# Altium schematic symbol library Resistors.SchLib: 234 symbols (part 1 of 2)
Pins are listed as number, name and electrical type; pins without a type are passive.

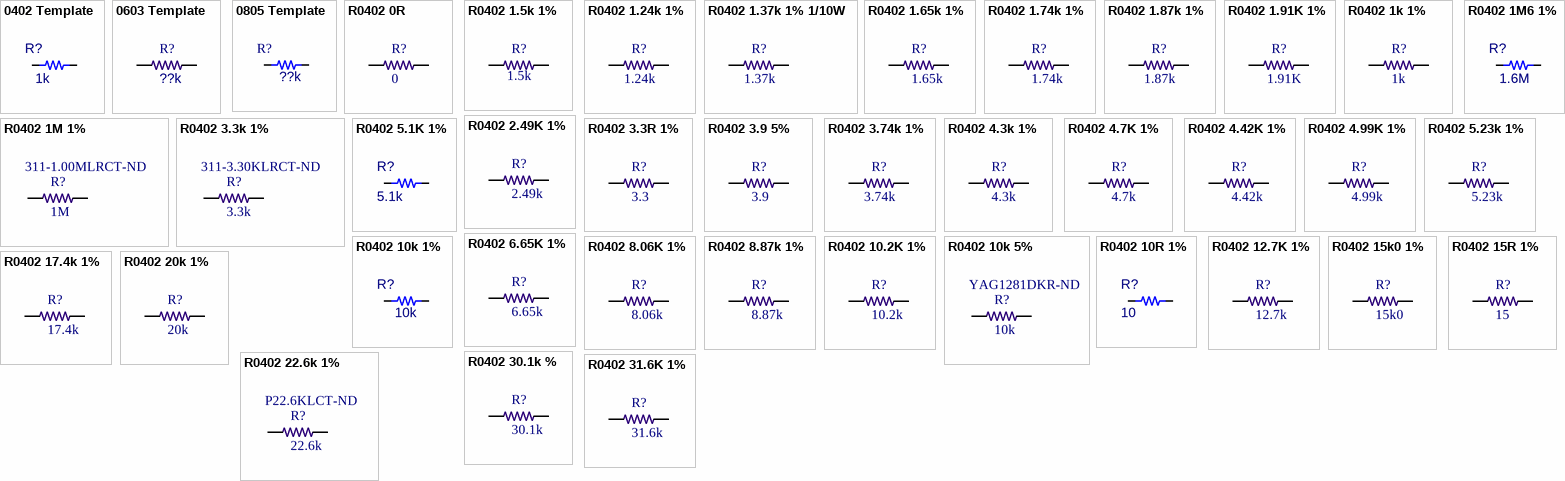
[diagram p0: symbols 0402 Template to R0402 31.6K 1%]

## 0402 Template
designator R?  value 1k  (hidden comment: *)
Chip Resistor, 0402, 1k ohms, 1%, 1/16 W
footprint R0402-IPC
footprint R0402-HIGH-DENSITY (Chip Resistor, 2-Leads, Body 1.00x0.50mm, IPC High Density)
pins: 1, 2

## 0603 Template
designator R?  value ??k  (hidden comment: *)
Chip Resistor, 0603, ??k ohms, 0.1W
footprint R0603-IPC
footprint R0603-HIGH-DENSITY (Chip Resistor, 2-Leads, Body 1.60x0.80mm, IPC High Density)
pins: 1, 2

## 0805 Template
designator R?  value ??k  (hidden comment: *)
Chip Resistor, 0805, ??k ohms, 0.1W
footprint R0805-IPC
footprint R0805-High-Density (Chip Resistor, 2-Leads, Body 2.00x1.20mm, IPC High Density)
pins: 1, 2

## R0402 0R
designator R?  value 0  (hidden comment: *)
Chip Resistor, 0402, 0 ohm jumper; Supplier 1: Digi-Key; Supplier Part Number 1: 311-0.0JRCT-ND
footprint R0402-IPC
footprint R0402-HIGH-DENSITY (Chip Resistor, 2-Leads, Body 1.00x0.50mm, IPC High Density)
pins: 1, 2

## R0402 1.5k 1%
designator R?  value 1.5k  (hidden comment: *)
Chip Resistor, 0402, 1.5k ohms, 1%, 1/16 W; Supplier 1: Digi-Key; Supplier Part Number 1: 311-1.50KLRCT-ND
footprint R0402-IPC
footprint R0402-HIGH-DENSITY (Chip Resistor, 2-Leads, Body 1.00x0.50mm, IPC High Density)
pins: 1, 2

## R0402 1.24k 1%
designator R?  value 1.24k  (hidden comment: *)
Chip Resistor, 0402, 1.24k ohms, 1%, 1/16 W; Supplier 1: Digi-Key; Supplier Part Number 1: 311-1.24KLRCT-ND
footprint R0402-HIGH-DENSITY (Chip Resistor, 2-Leads, Body 1.00x0.50mm, IPC High Density)
pins: 1, 2

## R0402 1.37k 1% 1/10W
designator R?  value 1.37k  (hidden comment: *)
Chip Resistor, 0402, 1.37k ohms, 0.1W; Supplier 1: Digi-Key; Supplier Part Number 1: 2019-RK73H1ETTP1371FCT-ND
footprint R0402-HIGH-DENSITY (Chip Resistor, 2-Leads, Body 1.00x0.50mm, IPC High Density)
pins: 1, 2

## R0402 1.65k 1%
designator R?  value 1.65k  (hidden comment: *)
Chip Resistor, 0402, 1.65k ohms, 1%, 1/16 W; Supplier 1: Digi-Key; Supplier Part Number 1: YAG3043CT-ND
footprint R0402-IPC
footprint R0402-HIGH-DENSITY (Chip Resistor, 2-Leads, Body 1.00x0.50mm, IPC High Density)
pins: 1, 2

## R0402 1.74k 1%
designator R?  value 1.74k  (hidden comment: *)
Chip Resistor, 0402, 1.74k ohms, 1%, 0.1 W; Supplier 1: Digi-Key; Supplier Part Number 1: 2019-RK73H1ETTP1741FCT-ND
footprint R0402-HIGH-DENSITY (Chip Resistor, 2-Leads, Body 1.00x0.50mm, IPC High Density)
pins: 1, 2

## R0402 1.87k 1%
designator R?  value 1.87k  (hidden comment: *)
Chip Resistor, 0402, 1.87k ohms, 1%, 1/16 W; Supplier 1: Digi-Key; Supplier Part Number 1: RMCF0402FT1K87CT-ND
footprint R0402-HIGH-DENSITY (Chip Resistor, 2-Leads, Body 1.00x0.50mm, IPC High Density)
pins: 1, 2

## R0402 1.91K 1%
designator R?  value 1.91K  (hidden comment: *)
Chip Resistor, 0402, 1.91K ohms, 1%, 0.1W; Supplier 1: Digi-Key; Supplier Part Number 1: P1.91KLCT-ND
footprint R0402-IPC
footprint R0402-HIGH-DENSITY (Chip Resistor, 2-Leads, Body 1.00x0.50mm, IPC High Density)
pins: 1, 2

## R0402 1k 1%
designator R?  value 1k  (hidden comment: *)
Chip Resistor, 0402, 1k ohms, 1%, 1/16 W; Supplier 1: Digi-Key; Supplier Part Number 1: 311-1.00KLRCT-ND
footprint R0402-IPC
footprint R0402-HIGH-DENSITY (Chip Resistor, 2-Leads, Body 1.00x0.50mm, IPC High Density)
pins: 1, 2

## R0402 1M6 1%
designator R?, comment value 1.6M  (hidden comment: 1.6M 1% 0402)
Chip Resistor, 0402, 1.6M ohms, 1%, 1/16 W; Supplier 1: DigiKey; Supplier 2: Mouser; Supplier Part Number 1: 2019-RK73H1ETTP1604FCT-ND; Supplier Part Number 2: 660-RK73H1ETTP1604F
footprint R0402-IPC
footprint R0402-HIGH-DENSITY (Chip Resistor, 2-Leads, Body 1.00x0.50mm, IPC High Density)
pins: 1, 2

## R0402 1M 1%
designator R?  value 1M  Supplier Part Number 1: 311-1.00MLRCT-ND  (hidden comment: *)
Chip Resistor, 0402, ??k ohms, 0.1W; Supplier 1: Digi-Key
footprint R0402-IPC
footprint R0402-HIGH-DENSITY (Chip Resistor, 2-Leads, Body 1.00x0.50mm, IPC High Density)
pins: 1, 2

## R0402 2.49K 1%
designator R?  value 2.49k  (hidden comment: *)
Chip Resistor, 0402, 2.49k ohms, 1/16W; Supplier 1: Digi-Key; Supplier Part Number 1: 541-2.49KLCT-ND
footprint R0402-HIGH-DENSITY (Chip Resistor, 2-Leads, Body 1.00x0.50mm, IPC High Density)
pins: 1, 2

## R0402 3.3k 1%
designator R?  value 3.3k  Supplier Part Number 1: 311-3.30KLRCT-ND  (hidden comment: *)
Chip Resistor, 0402, 3.3k ohms, 1%, 1/16 W; Supplier 1: Digi-Key
footprint R0402-IPC
footprint R0402-HIGH-DENSITY (Chip Resistor, 2-Leads, Body 1.00x0.50mm, IPC High Density)
pins: 1, 2

## R0402 3.3R 1%
designator R?  value 3.3  (hidden comment: *)
Chip Resistor, 0402, 3.3 ohms, 1%, 1/16 W; Supplier 1: Digi-Key; Supplier Part Number 1: 311-3.30LRCT-ND
footprint R0402-IPC
footprint R0402-HIGH-DENSITY (Chip Resistor, 2-Leads, Body 1.00x0.50mm, IPC High Density)
pins: 1, 2

## R0402 3.9 5%
designator R?  value 3.9  (hidden comment: *)
Chip Resistor, 0402, 3.9 ohms, 0.1W; Supplier 1: Digi-Key; Supplier Part Number 1: P3.9JCT-ND
footprint R0402-HIGH-DENSITY (Chip Resistor, 2-Leads, Body 1.00x0.50mm, IPC High Density)
footprint R0402-IPC
pins: 1, 2

## R0402 3.74k 1%
designator R?  value 3.74k  (hidden comment: *)
Chip Resistor, 0402, 3.74k ohms, 1%, 1/16 W; Supplier 1: Digi-Key; Supplier Part Number 1: 311-3.74KLRCT-ND
footprint R0402-HIGH-DENSITY (Chip Resistor, 2-Leads, Body 1.00x0.50mm, IPC High Density)
pins: 1, 2

## R0402 4.3k 1%
designator R?  value 4.3k  (hidden comment: *)
Chip Resistor, 0402, 4.3k ohms, 0.1W; Manufacturer Part Number: ERJ-2RKF4301X; Manufacturer: Panasonic Electronic Components; Supplier Part Number: P4.30KLCT-ND; Supplier: Digi-Key; Supplier 1: Digi-Key; Supplier Part Number 1: P4.30KLCT-ND
footprint R0402-IPC
pins: 1, 2

## R0402 4.7K 1%
designator R?  value 4.7k  (hidden comment: *)
Chip Resistor, 0402, 4.7k ohms, 0.1W; Supplier 1: Digi-Key; Supplier Part Number 1: P4.70KLCT-ND
footprint R0402-IPC
footprint R0402-HIGH-DENSITY (Chip Resistor, 2-Leads, Body 1.00x0.50mm, IPC High Density)
pins: 1, 2

## R0402 4.42K 1%
designator R?  value 4.42k  (hidden comment: *)
Chip Resistor, 0402, 4.42k ohms, 0.1W; Supplier Part Number: P8.06KLCT-ND; Supplier 1: Digi-Key; Supplier Part Number 1: P4.42KLCT-ND
footprint R0402-HIGH-DENSITY (Chip Resistor, 2-Leads, Body 1.00x0.50mm, IPC High Density)
pins: 1, 2

## R0402 4.99K 1%
designator R?  value 4.99k  (hidden comment: *)
Chip Resistor, 0402, 4.99k ohms, 0.1W; Supplier 1: Digi-Key; Supplier Part Number 1: P4.99KLCT-ND
footprint R0402-HIGH-DENSITY (Chip Resistor, 2-Leads, Body 1.00x0.50mm, IPC High Density)
footprint R0402-IPC
pins: 1, 2

## R0402 5.1K 1%
designator R?  value 5.1k  (hidden comment: *)
RES SMD 5.1K OHM 1% 1/10W 0402; Temperature Coefficient: ±100ppm/°C; Features: Automotive AEC-Q200; Operating Temperature: -55°C ~ 155°C
footprint R0402-HIGH-DENSITY (Chip Resistor, 2-Leads, Body 1.00x0.50mm, IPC High Density)
footprint R0402-IPC
pins: 1, 2

## R0402 5.23k 1%
designator R?  value 5.23k  (hidden comment: *)
Chip Resistor, 0402, 5.23k ohms, 0.1W; Supplier 1: Digi-Key; Supplier Part Number 1: P5.23KLCT-ND
footprint R0402-IPC
pins: 1, 2

## R0402 6.65K 1%
designator R?  value 6.65k  (hidden comment: *)
Chip Resistor, 0402, 6.65k ohms, 1/16 W; Supplier 1: Digi-Key; Supplier Part Number 1: RMCF0402FT6K65CT-ND
footprint R0402-HIGH-DENSITY (Chip Resistor, 2-Leads, Body 1.00x0.50mm, IPC High Density)
pins: 1, 2

## R0402 8.06K 1%
designator R?  value 8.06k  (hidden comment: *)
Chip Resistor, 0402, 8.06k ohms, 0.1W; Supplier Part Number: P8.06KLCT-ND; Supplier 1: Digi-Key; Supplier Part Number 1: 311-8.06KLRCT-ND
footprint R0402-HIGH-DENSITY (Chip Resistor, 2-Leads, Body 1.00x0.50mm, IPC High Density)
pins: 1, 2

## R0402 8.87k 1%
designator R?  value 8.87k  (hidden comment: *)
Chip Resistor, 0402, 8.87k ohms, 0.1W; Supplier 1: Digi-Key; Supplier Part Number 1: P8.87KLCT-ND
footprint R0402-IPC
footprint R0402-HIGH-DENSITY (Chip Resistor, 2-Leads, Body 1.00x0.50mm, IPC High Density)
pins: 1, 2

## R0402 10.2K 1%
designator R?  value 10.2k  (hidden comment: *)
Chip Resistor, 0402, 10.2k ohms, 0.1W; Supplier 1: Digi-Key; Supplier Part Number 1: P10.2KLCT-ND
footprint R0603-IPC
footprint R0603-HIGH-DENSITY (Chip Resistor, 2-Leads, Body 1.60x0.80mm, IPC High Density)
footprint R0603-HIGH-DENSITY (Chip Resistor, 2-Leads, Body 1.60x0.80mm, IPC High Density)
footprint C0402-HIGH-DENSITY (Chip Capacitor, 2-Leads, Body 1.02x0.51mm, IPC High Density)
pins: 1, 2

## R0402 10k 1%
designator R?  value 10k  (hidden comment: *)
Chip Resistor, 0402, 10k ohms, 1%, 1/16 W; Supplier 1: Digi-Key; Supplier Part Number 1: 311-10.0KLRCT-ND
footprint R0402-IPC
footprint R0402-HIGH-DENSITY (Chip Resistor, 2-Leads, Body 1.00x0.50mm, IPC High Density)
pins: 1, 2

## R0402 10k 5%
designator R?  value 10k  Supplier Part Number 1: YAG1281DKR-ND  (hidden comment: *)
Chip Resistor, 0402, 10k ohms, 5%, 1/16 W; Supplier 1: Digi-Key
footprint R0402-IPC
footprint R0402-HIGH-DENSITY (Chip Resistor, 2-Leads, Body 1.00x0.50mm, IPC High Density)
pins: 1, 2

## R0402 10R 1%
designator R?  value 10  (hidden comment: *)
Chip Resistor, 0402, 10 ohms, 1%, 1/16 W; Supplier 1: Digi-Key; Supplier Part Number 1: 311-10.0LRCT-ND
footprint R0402-IPC
footprint R0402-HIGH-DENSITY (Chip Resistor, 2-Leads, Body 1.00x0.50mm, IPC High Density)
pins: 1, 2

## R0402 12.7K 1%
designator R?  value 12.7k  (hidden comment: *)
Chip Resistor, 0402, 12.7k ohms, 0.1W; Supplier 1: Digi-Key; Supplier Part Number 1: P12.7KLCT-ND
footprint R0603-IPC
footprint R0603-HIGH-DENSITY (Chip Resistor, 2-Leads, Body 1.60x0.80mm, IPC High Density)
footprint R0603-HIGH-DENSITY (Chip Resistor, 2-Leads, Body 1.60x0.80mm, IPC High Density)
footprint C0402-HIGH-DENSITY (Chip Capacitor, 2-Leads, Body 1.02x0.51mm, IPC High Density)
pins: 1, 2

## R0402 15k0 1%
designator R?  value 15k0  (hidden comment: *)
Chip Resistor, 0402, 15k0 ohms, 0.0625W; Supplier 1: Digi-Key; Supplier Part Number 1: 311-15.0KLRCT-ND
footprint R0402-IPC
footprint R0402-HIGH-DENSITY (Chip Resistor, 2-Leads, Body 1.00x0.50mm, IPC High Density)
pins: 1, 2

## R0402 15R 1%
designator R?  value 15  (hidden comment: *)
Chip Resistor, 0402, 15 ohms, 1%, 1/16 W; Supplier 1: Digi-Key; Supplier Part Number 1: 311-15LRCT-ND
footprint R0402-IPC
footprint R0402-HIGH-DENSITY (Chip Resistor, 2-Leads, Body 1.00x0.50mm, IPC High Density)
pins: 1, 2

## R0402 17.4k 1%
designator R?  value 17.4k  (hidden comment: *)
Chip Resistor, 0402, 17.4k ohms, 0.1W; Supplier 1: Digi-Key; Supplier Part Number 1: P17.4KLCT-ND
footprint R0402-IPC
pins: 1, 2

## R0402 20k 1%
designator R?  value 20k  (hidden comment: *)
Chip Resistor, 0402, 20k ohms, 1%, 1/16 W; Supplier 1: Digi-Key; Supplier Part Number 1: 311-20.0KLRCT-ND
footprint R0402-IPC
footprint R0402-HIGH-DENSITY (Chip Resistor, 2-Leads, Body 1.00x0.50mm, IPC High Density)
pins: 1, 2

## R0402 22.6k 1%
designator R?  value 22.6k  Supplier Part Number 1: P22.6KLCT-ND  (hidden comment: *)
Chip Resistor, 0402, 22.6k ohms, 0.1W; Supplier 1: Digi-Key
footprint R0402-IPC
footprint R0402-HIGH-DENSITY (Chip Resistor, 2-Leads, Body 1.00x0.50mm, IPC High Density)
pins: 1, 2

## R0402 30.1k %
designator R?  value 30.1k  (hidden comment: *)
Chip Resistor, 0402, 30.1k ohms, 0.1W; Supplier 1: Digi-Key; Supplier Part Number 1: P30.1KLCT-ND
footprint R0402-IPC
pins: 1, 2

## R0402 31.6K 1%
designator R?  value 31.6k  (hidden comment: *)
Chip Resistor, 0402, ??k ohms, 0.1W; Supplier 1: Digi-Key; Supplier Part Number 1: RMCF0402FT31K6CT-ND
footprint R0603-IPC
footprint R0603-HIGH-DENSITY (Chip Resistor, 2-Leads, Body 1.60x0.80mm, IPC High Density)
footprint R0603-HIGH-DENSITY (Chip Resistor, 2-Leads, Body 1.60x0.80mm, IPC High Density)
footprint C0402-HIGH-DENSITY (Chip Capacitor, 2-Leads, Body 1.02x0.51mm, IPC High Density)
pins: 1, 2

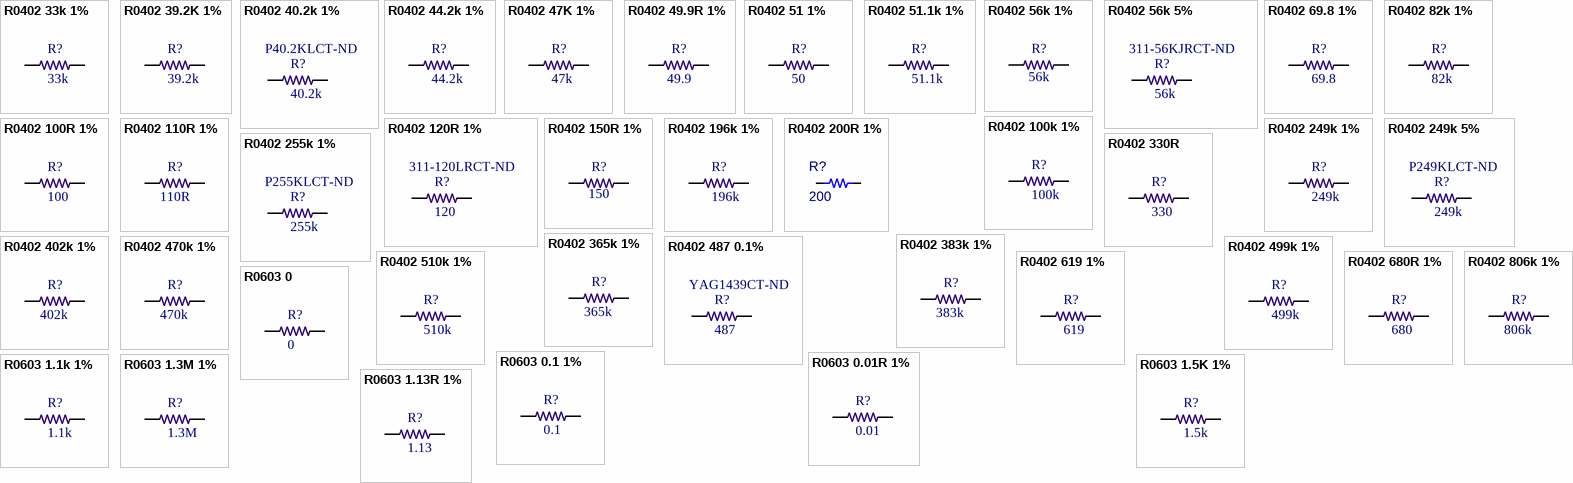
[diagram p1: symbols R0402 33k 1% to R0603 1.13R 1%]

## R0402 33k 1%
designator R?  value 33k  (hidden comment: *)
Chip Resistor, 0402, 33k ohms, 1%, 1/16 W; Supplier 1: Digi-Key; Supplier Part Number 1: 311-33.0KLRCT-ND
footprint R0402-IPC
footprint R0402-HIGH-DENSITY (Chip Resistor, 2-Leads, Body 1.00x0.50mm, IPC High Density)
pins: 1, 2

## R0402 39.2K 1%
designator R?  value 39.2k  (hidden comment: *)
Chip Resistor, 0402, 39.2k ohms, 0.1W; Supplier 1: Digi-Key; Supplier Part Number 1: P39.2KLCT-ND
footprint R0603-IPC
footprint R0603-HIGH-DENSITY (Chip Resistor, 2-Leads, Body 1.60x0.80mm, IPC High Density)
footprint R0603-HIGH-DENSITY (Chip Resistor, 2-Leads, Body 1.60x0.80mm, IPC High Density)
footprint C0402-HIGH-DENSITY (Chip Capacitor, 2-Leads, Body 1.02x0.51mm, IPC High Density)
pins: 1, 2

## R0402 40.2k 1%
designator R?  value 40.2k  Supplier Part Number 1: P40.2KLCT-ND  (hidden comment: *)
Chip Resistor, 0402, 20k ohms, 1%, 1/16 W; Supplier 1: Digi-Key
footprint R0402-IPC
footprint R0402-HIGH-DENSITY (Chip Resistor, 2-Leads, Body 1.00x0.50mm, IPC High Density)
pins: 1, 2

## R0402 44.2k 1%
designator R?  value 44.2k  (hidden comment: *)
Chip Resistor, 0402, 44.2k ohms, 0.1W; Supplier 1: Digi-Key; Supplier Part Number 1: P44.2KLCT-ND
footprint R0402-IPC
pins: 1, 2

## R0402 47K 1%
designator R?  value 47k  (hidden comment: *)
Chip Resistor, 0402, 47k ohms, 0.0625W; Supplier: Digi-Key; Supplier Part Number: 541-47.0KLCT-ND
footprint R0603-IPC
footprint R0603-HIGH-DENSITY (Chip Resistor, 2-Leads, Body 1.60x0.80mm, IPC High Density)
footprint R0603-HIGH-DENSITY (Chip Resistor, 2-Leads, Body 1.60x0.80mm, IPC High Density)
footprint C0402-HIGH-DENSITY (Chip Capacitor, 2-Leads, Body 1.02x0.51mm, IPC High Density)
pins: 1, 2

## R0402 49.9R 1%
designator R?  value 49.9  (hidden comment: *)
Chip Resistor, 0402, 49.9 ohms, 1%, 1/16 W; Supplier 1: Digi-Key; Supplier Part Number 1: 311-49.9LRCT-ND
footprint R0402-IPC
footprint R0402-HIGH-DENSITY (Chip Resistor, 2-Leads, Body 1.00x0.50mm, IPC High Density)
pins: 1, 2

## R0402 51 1%
designator R?  value 50  (hidden comment: *)
Chip Resistor, 0402, 50 ohms, 1%, 1/10 W
footprint R0402-IPC
footprint R0402-HIGH-DENSITY (Chip Resistor, 2-Leads, Body 1.00x0.50mm, IPC High Density)
pins: 1, 2

## R0402 51.1k 1%
designator R?  value 51.1k  (hidden comment: *)
Chip Resistor, 0402, 51.1k ohms, 0.1W; Tolerance: ±1%; Temperature Coefficient: ±100ppm/°C; Power (Watts): 0.1W; Features: Automotive AEC-Q200; Operating Temperature: -55°C ~ 155°C; Package / Case: 0402; Supplier 1: Digi-Key; Supplier Part Number 1: P51.1KLCT-ND
footprint R0402-IPC
pins: 1, 2

## R0402 56k 1%
designator R?  value 56k  (hidden comment: *)
Chip Resistor, 0402, 56k ohms, 1/16 W; Supplier 1: Digi-Key; Supplier Part Number 1: 311-56.0KLRCT-ND
footprint R0402-IPC
footprint R0402-HIGH-DENSITY (Chip Resistor, 2-Leads, Body 1.00x0.50mm, IPC High Density)
pins: 1, 2

## R0402 56k 5%
designator R?  value 56k  Supplier Part Number 1: 311-56KJRCT-ND  (hidden comment: *)
Chip Resistor, 0402, 56k ohms, 0.1W; Supplier 1: Digi-Key
footprint R0402-IPC
footprint R0402-HIGH-DENSITY (Chip Resistor, 2-Leads, Body 1.00x0.50mm, IPC High Density)
pins: 1, 2

## R0402 69.8 1%
designator R?  value 69.8  (hidden comment: *)
Chip Resistor, 0402, 69.8 ohms, 0.1W; Supplier 1: Digi-Key; Supplier Part Number 1: P69.8LCT-ND
footprint R0402-IPC
pins: 1, 2

## R0402 82k 1%
designator R?  value 82k  (hidden comment: *)
Chip Resistor, 0402, 82k ohms, 1/16 W; Supplier 1: Digi-Key; Supplier Part Number 1: 311-82.0KLRCT-ND
footprint R0402-IPC
footprint R0402-HIGH-DENSITY (Chip Resistor, 2-Leads, Body 1.00x0.50mm, IPC High Density)
pins: 1, 2

## R0402 100k 1%
designator R?  value 100k  (hidden comment: *)
Chip Resistor, 0402, 100k ohms, 1/16 W; Supplier 1: Digi-Key; Supplier Part Number 1: 311-100KLRCT-ND
footprint R0402-IPC
footprint R0402-HIGH-DENSITY (Chip Resistor, 2-Leads, Body 1.00x0.50mm, IPC High Density)
pins: 1, 2

## R0402 100R 1%
designator R?  value 100  (hidden comment: *)
Chip Resistor, 0402, 100 ohms, 1%, 1/16 W; Supplier 1: Digi-Key; Supplier Part Number 1: 311-100LRCT-ND
footprint R0402-IPC
footprint R0402-HIGH-DENSITY (Chip Resistor, 2-Leads, Body 1.00x0.50mm, IPC High Density)
pins: 1, 2

## R0402 110R 1%
designator R?  value 110R  (hidden comment: *)
Chip Resistor, 0402, 110R, 1%, 1/16 W; Supplier 1: Digi-Key; Supplier Part Number 1: 311-110LRCT-ND
footprint R0402-IPC
footprint R0402-HIGH-DENSITY (Chip Resistor, 2-Leads, Body 1.00x0.50mm, IPC High Density)
pins: 1, 2

## R0402 120R 1%
designator R?  value 120  Supplier Part Number 1: 311-120LRCT-ND  (hidden comment: *)
Chip Resistor, 0402, 120 ohm, 1%; Supplier 1: Digi-Key
footprint R0402-IPC
footprint R0402-HIGH-DENSITY (Chip Resistor, 2-Leads, Body 1.00x0.50mm, IPC High Density)
pins: 1, 2

## R0402 150R 1%
designator R?  value 150  (hidden comment: *)
Chip Resistor, 0402, 150 ohms, 1%, 1/16 W; Supplier 1: Digi-Key; Supplier Part Number 1: 311-150LRCT-ND
footprint R0402-IPC
footprint R0402-HIGH-DENSITY (Chip Resistor, 2-Leads, Body 1.00x0.50mm, IPC High Density)
pins: 1, 2

## R0402 196k 1%
designator R?  value 196k  (hidden comment: *)
Chip Resistor, 0402, 196k ohms, 0.1W; Supplier 1: Digi-Key; Supplier Part Number 1: YAG3024CT-ND
footprint R0402-IPC
footprint R0402-HIGH-DENSITY (Chip Resistor, 2-Leads, Body 1.00x0.50mm, IPC High Density)
pins: 1, 2

## R0402 200R 1%
designator R?  value 200  (hidden comment: *)
Chip Resistor, 0402, 200 ohms, 1%, 1/16 W; Supplier 1: Digi-Key; Supplier Part Number 1: 311-200LRCT-ND
footprint R0402-IPC
footprint R0402-HIGH-DENSITY (Chip Resistor, 2-Leads, Body 1.00x0.50mm, IPC High Density)
pins: 1, 2

## R0402 249k 1%
designator R?  Resistance: 249k  (hidden comment: *)
RES SMD 249K OHM 1% 1/10W 0402; Power (Watts): 0.1 W; Temperature Coefficient: ±100ppm/°C; Tolerance: ±1%; Features: Automotive AEC-Q200; Operating Temperature: -55°C ~ 155°C; Package / Case: 0402; Supplier 1: Digi-Key; Supplier Part Number 1: P249KLCT-ND
footprint R0402-IPC
footprint R0402-HIGH-DENSITY (Chip Resistor, 2-Leads, Body 1.00x0.50mm, IPC High Density)
pins: 1, 2

## R0402 249k 5%
designator R?  value 249k  Supplier Part Number 1: P249KLCT-ND  (hidden comment: *)
Chip Resistor, 0402, 56k ohms, 0.1W; Supplier 1: Digi-Key
footprint R0402-IPC
footprint R0402-HIGH-DENSITY (Chip Resistor, 2-Leads, Body 1.00x0.50mm, IPC High Density)
pins: 1, 2

## R0402 255k 1%
designator R?  value 255k  Supplier Part Number 1: P255KLCT-ND  (hidden comment: *)
Chip Resistor, 0402, 255k ohms, 0.1W; Supplier 1: Digi-Key
footprint R0402-IPC
footprint R0402-HIGH-DENSITY (Chip Resistor, 2-Leads, Body 1.00x0.50mm, IPC High Density)
pins: 1, 2

## R0402 330R
designator R?  value 330  (hidden comment: *)
Chip Resistor, 0402, 330 ohms, 1%, 1/16 W; Supplier 1: Digi-Key; Supplier Part Number 1: 311-330LRCT-ND
footprint R0402-IPC
footprint R0402-HIGH-DENSITY (Chip Resistor, 2-Leads, Body 1.00x0.50mm, IPC High Density)
pins: 1, 2

## R0402 365k 1%
designator R?  value 365k  (hidden comment: *)
Chip Resistor, 0402, 365k ohms, 1%, 1/10 W; Supplier 1: Digi-Key; Supplier Part Number 1: 2019-RK73H1ETTP3653FCT-ND
footprint R0402-HIGH-DENSITY (Chip Resistor, 2-Leads, Body 1.00x0.50mm, IPC High Density)
pins: 1, 2

## R0402 383k 1%
designator R?  value 383k  (hidden comment: *)
Chip Resistor, 0402, 383k ohms, 1%, 1/10 W; Supplier 1: Digi-Key; Supplier Part Number 1: P383KLCT-ND
footprint R0402-HIGH-DENSITY (Chip Resistor, 2-Leads, Body 1.00x0.50mm, IPC High Density)
pins: 1, 2

## R0402 402k 1%
designator R?  value 402k  (hidden comment: *)
Chip Resistor, 0402, 402k ohms, 1%, 1/10 W; Supplier 1: Digi-Key; Supplier Part Number 1: P402KLCT-ND
footprint R0402-HIGH-DENSITY (Chip Resistor, 2-Leads, Body 1.00x0.50mm, IPC High Density)
pins: 1, 2

## R0402 470k 1%
designator R?  value 470k  (hidden comment: *)
Chip Resistor, 0402, 470k ohms, 1/16 W; Supplier 1: Digi-Key; Supplier Part Number 1: 311-470KLRCT-ND
footprint R0402-IPC
footprint R0402-HIGH-DENSITY (Chip Resistor, 2-Leads, Body 1.00x0.50mm, IPC High Density)
pins: 1, 2

## R0402 487 0.1%
designator R?  value 487  Supplier Part Number 1: YAG1439CT-ND  (hidden comment: *)
RES SMD 487 OHM 0.1% 1/16W 0402; Supplier 1: Digi-Key
footprint R0402-IPC
footprint R0402-HIGH-DENSITY (Chip Resistor, 2-Leads, Body 1.00x0.50mm, IPC High Density)
pins: 1, 2

## R0402 499k 1%
designator R?  value 499k  (hidden comment: *)
Chip Resistor, 0402, 499k ohms, 0.1W; Supplier 1: Digi-Key; Supplier Part Number 1: P499KLCT-ND
footprint R0402-HIGH-DENSITY (Chip Resistor, 2-Leads, Body 1.00x0.50mm, IPC High Density)
footprint R0402-IPC
pins: 1, 2

## R0402 510k 1%
designator R?  value 510k  (hidden comment: *)
Chip Resistor, 0402, 510k ohms, 0.1W; Supplier 1: Digi-Key; Supplier Part Number 1: P510KLCT-ND
footprint R0402-IPC
pins: 1, 2

## R0402 619 1%
designator R?  value 619  (hidden comment: *)
Chip Resistor, 0402, 619 ohms, 1/16 W; Supplier 1: Digi-Key; Supplier Part Number 1: 2019-RK73H1ETTP6190FCT-ND
footprint R0402-HIGH-DENSITY (Chip Resistor, 2-Leads, Body 1.00x0.50mm, IPC High Density)
pins: 1, 2

## R0402 680R 1%
designator R?  value 680  (hidden comment: *)
Chip Resistor, 0402, 680 ohms, 1/16 W; Supplier 1: Digi-Key; Supplier Part Number 1: 311-680LRCT-ND
footprint R0402-IPC
footprint R0402-HIGH-DENSITY (Chip Resistor, 2-Leads, Body 1.00x0.50mm, IPC High Density)
pins: 1, 2

## R0402 806k 1%
designator R?  value 806k  (hidden comment: *)
Chip Resistor, 0402, 800k ohms, 1%, 1/10 W; Supplier 1: Digi-Key; Supplier Part Number 1: P806KLCT-ND
footprint R0402-HIGH-DENSITY (Chip Resistor, 2-Leads, Body 1.00x0.50mm, IPC High Density)
pins: 1, 2

## R0603 0
designator R?  value 0  (hidden comment: *)
RES SMD 0 OHM JUMPER 1/10W 0603; Supplier 1: Digi-Key; Supplier Part Number 1: RMCF0603ZT0R00CT-ND
footprint R0603-IPC
footprint R0603-HIGH-DENSITY (Chip Resistor, 2-Leads, Body 1.60x0.80mm, IPC High Density)
pins: 1, 2

## R0603 0.1 1%
designator R?  value 0.1  (hidden comment: *)
RES 0.1 OHM 1% 1/4W 0603; Supplier 1: Digi-Key; Supplier Part Number 1: 1276-6155-1-ND
footprint R0603-IPC
footprint R0603-HIGH-DENSITY (Chip Resistor, 2-Leads, Body 1.60x0.80mm, IPC High Density)
pins: 1, 2

## R0603 0.01R 1%
designator R?  value 0.01  (hidden comment: *)
RES 0.01 OHM 1% 1/4W 0603; Temperature Coefficient: ±75ppm/°C; Power (Watts): 0.25W, 1/4W; Features: Automotive AEC-Q200, Current Sense, Moisture Resistant; Operating Temperature: -55°C ~ 170°C; Supplier 1: Digi-Key; Supplier Part Number 1: CSRF0603FT10L0CT-ND
footprint R0603-IPC
pins: 1, 2

## R0603 1.1k 1%
designator R?  value 1.1k  (hidden comment: *)
RES 1.1K OHM 1% 1/10W 0603; Supplier 1: Digi-Key; Supplier Part Number 1: RMCF0603FT1K10CT-ND
footprint R0603-IPC
pins: 1, 2

## R0603 1.3M 1%
designator R?  value 1.3M  (hidden comment: *)
RES SMD 1.3M OHM 1% 1/10W 0603; Supplier 1: Digi-Key; Supplier Part Number 1: 541-1.30MHCT-ND
footprint R0603-IPC
footprint R0603-HIGH-DENSITY (Chip Resistor, 2-Leads, Body 1.60x0.80mm, IPC High Density)
pins: 1, 2

## R0603 1.5K 1%
designator R?  value 1.5k  (hidden comment: *)
RES 1.5K OHM 1% 1/10W 0603; Supplier 1: Digi-Key; Supplier Part Number 1: RMCF0603FT1K50CT-ND
footprint R0603-IPC
footprint R0603-HIGH-DENSITY (Chip Resistor, 2-Leads, Body 1.60x0.80mm, IPC High Density)
pins: 1, 2

## R0603 1.13R 1%
designator R?  value 1.13  (hidden comment: *)
RES SMD 1.13 OHM 1% 1/10W 0603; Supplier 1: Digi-Key; Supplier Part Number 1: 541-1.13HHCT-ND
footprint R0603-IPC
footprint R0603-HIGH-DENSITY (Chip Resistor, 2-Leads, Body 1.60x0.80mm, IPC High Density)
pins: 1, 2

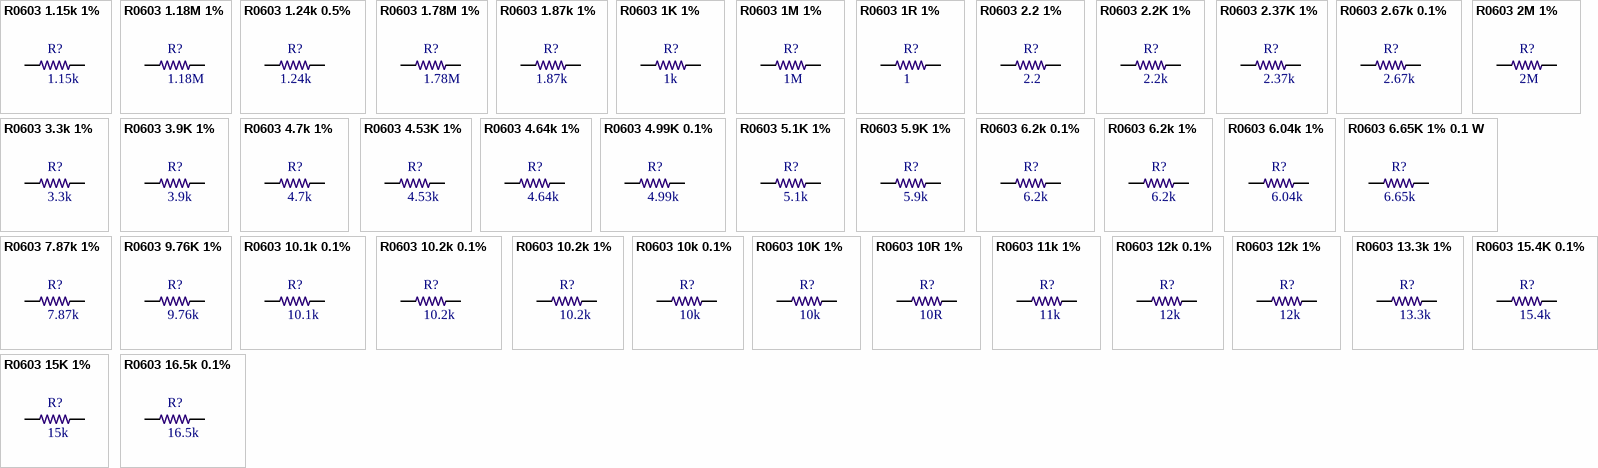
[diagram p2: symbols R0603 1.15k 1% to R0603 16.5k 0.1%]

## R0603 1.15k 1%
designator R?  value 1.15k  (hidden comment: *)
Chip Resistor, 0603, 1.15k ohms, 0.1W; Supplier 1: Digi-Key; Supplier Part Number 1: P1.15KHCT-ND
footprint R0603-IPC
footprint R0603-HIGH-DENSITY (Chip Resistor, 2-Leads, Body 1.60x0.80mm, IPC High Density)
pins: 1, 2

## R0603 1.18M 1%
designator R?  value 1.18M  (hidden comment: *)
RES SMD 1.18M OHM 1% 1/10W 0603; Supplier 1: Digi-Key; Supplier Part Number 1: 541-1.18MHCT-ND
footprint R0603-IPC
footprint R0603-HIGH-DENSITY (Chip Resistor, 2-Leads, Body 1.60x0.80mm, IPC High Density)
pins: 1, 2

## R0603 1.24k 0.5%
designator R?, comment value 1.24k  (hidden comment: ERA3AED1241V)
Chip Resistor, 0603, 1.24k ohms, 0.5%, 1/10 W; Supplier 1: Digi-Key; Supplier 2: Mouser; Supplier 3: LCSC; Supplier Part Number 1: P1.24KBLCT-ND; Supplier Part Number 2: 667-ERA-3AED1241V; Supplier Part Number 3: C193683
footprint R0603-HIGH-DENSITY (Chip Resistor, 2-Leads, Body 1.60x0.80mm, IPC High Density)
footprint R0603-IPC
pins: 1, 2

## R0603 1.78M 1%
designator R?  value 1.78M  (hidden comment: *)
RES SMD 1.78M OHM 1% 1/10W 0603; Supplier 1: Digi-Key; Supplier Part Number 1: 541-1.78MHCT-ND
footprint R0603-IPC
footprint R0603-HIGH-DENSITY (Chip Resistor, 2-Leads, Body 1.60x0.80mm, IPC High Density)
pins: 1, 2

## R0603 1.87k 1%
designator R?, comment value 1.87k  (hidden comment: RES 1.87K SMD)
Chip Resistor, 0603, 1.87k ohms, 1%, 1/10 W; Supplier 3: LCSC; Supplier Part Number 3: C217857
footprint R0603-IPC-1.87k (1.87k 0603 Resistor)
footprint R0603-HIGH-DENSITY (Chip Resistor, 2-Leads, Body 1.60x0.80mm, IPC High Density)
footprint R0603-IPC
pins: 1, 2

## R0603 1K 1%
designator R?  value 1k  (hidden comment: *)
RES SMD 1K OHM 1% 1/10W 0603; Temperature Coefficient: ±100ppm/°C; Operating Temperature: -55°C ~ 155°C; Features: Automotive AEC-Q200; Tolerance: ±1%; Supplier 1: Digi-Key; Supplier Part Number 1: RMCF0603FG1K00CT-ND
footprint R0603-IPC
footprint R0603-HIGH-DENSITY (Chip Resistor, 2-Leads, Body 1.60x0.80mm, IPC High Density)
footprint R0603-IPC-1K (1K 0603 Resistor)
pins: 1, 2

## R0603 1M 1%
designator R?  value 1M  (hidden comment: *)
RES SMD 1M OHM 1% 1/10W 0603; Supplier 1: Digi-Key; Supplier Part Number 1: RMCF0603FT1M00CT-ND
footprint R0603-IPC
footprint R0603-HIGH-DENSITY (Chip Resistor, 2-Leads, Body 1.60x0.80mm, IPC High Density)
pins: 1, 2

## R0603 1R 1%
designator R?  value 1  (hidden comment: *)
RES SMD 1 OHM 1% 1/10W 0603; Supplier 1: Digi-Key; Supplier Part Number 1: 541-1.00HCT-ND
footprint R0603-IPC
footprint R0603-HIGH-DENSITY (Chip Resistor, 2-Leads, Body 1.60x0.80mm, IPC High Density)
pins: 1, 2

## R0603 2.2 1%
designator R?  value 2.2  (hidden comment: *)
Chip Resistor, 0603, 2.2 ohms, 0.1W; Supplier 1: Digi-Key; Supplier Part Number 1: 311-2.2HRCT-ND
footprint R0603-IPC
footprint R0603-HIGH-DENSITY (Chip Resistor, 2-Leads, Body 1.60x0.80mm, IPC High Density)
pins: 1, 2

## R0603 2.2K 1%
designator R?  value 2.2k  (hidden comment: *)
RES SMD 2.2K OHM 1% 1/10W 0603; Temperature Coefficient: ±100ppm/°C; Features: Automotive AEC-Q200; Operating Temperature: -55°C ~ 155°C; Supplier 1: Digi-Key; Supplier Part Number 1: RMCF0603FT2K20CT-ND
footprint R0603-IPC
footprint R0603-HIGH-DENSITY (Chip Resistor, 2-Leads, Body 1.60x0.80mm, IPC High Density)
pins: 1, 2

## R0603 2.37K 1%
designator R?  value 2.37k  (hidden comment: *)
RES SMD 2.37K OHM 1% 1/10W 0603; Supplier 1: Digi-Key; Supplier 2: Mouser; Supplier 3: LCSC; Supplier Part Number 3: C403087; Supplier Part Number 2: 667-ERJ-3EKF2371V; Supplier Part Number 1: P2.37KHCT-ND
footprint R0603-IPC
footprint R0603-HIGH-DENSITY (Chip Resistor, 2-Leads, Body 1.60x0.80mm, IPC High Density)
pins: 1, 2

## R0603 2.67k 0.1%
designator R?  value 2.67k  (hidden comment: *)
RES SMD 2.67KOHM 0.1% 1/10W 0603; Supplier 1: Digi-Key; Supplier Part Number 1: P2.67KDBCT-ND
footprint R0603-IPC
footprint R0603-HIGH-DENSITY (Chip Resistor, 2-Leads, Body 1.60x0.80mm, IPC High Density)
pins: 1, 2

## R0603 2M 1%
designator R?  value 2M  (hidden comment: *)
RES SMD 2M OHM 1% 1/10W 0603; Supplier 1: Digi-Key; Supplier Part Number 1: YAG3591CT-ND
footprint R0603-IPC
footprint R0603-HIGH-DENSITY (Chip Resistor, 2-Leads, Body 1.60x0.80mm, IPC High Density)
pins: 1, 2

## R0603 3.3k 1%
designator R?  value 3.3k  (hidden comment: *)
Chip Resistor, 0603, 3.3k ohms, 0.1W; Supplier 1: Digi-Key; Supplier Part Number 1: RMCF0603FT3K30CT-ND
footprint R0603-IPC
footprint R0603-HIGH-DENSITY (Chip Resistor, 2-Leads, Body 1.60x0.80mm, IPC High Density)
pins: 1, 2

## R0603 3.9K 1%
designator R?  value 3.9k  (hidden comment: *)
RES 3.9K OHM 1% 1/10W 0603; Supplier 1: Digi-Key; Supplier Part Number 1: RMCF0603FT3K90CT-ND
footprint R0603-IPC
footprint R0603-HIGH-DENSITY (Chip Resistor, 2-Leads, Body 1.60x0.80mm, IPC High Density)
pins: 1, 2

## R0603 4.7k 1%
designator R?  value 4.7k  (hidden comment: *)
Chip Resistor, 0603, 4.7k ohms, 0.1W; Supplier 1: Digi-Key; Supplier Part Number 1: 311-4.70KHRCT-ND
footprint R0603-IPC
footprint R0603-HIGH-DENSITY (Chip Resistor, 2-Leads, Body 1.60x0.80mm, IPC High Density)
pins: 1, 2

## R0603 4.53K 1%
designator R?  value 4.53k  (hidden comment: *)
RES SMD 4.53K OHM 1% 1/10W 0603; Supplier 1: Digi-Key; Supplier Part Number 1: RMCF0603FT4K53CT-ND
footprint R0603-IPC
footprint R0603-HIGH-DENSITY (Chip Resistor, 2-Leads, Body 1.60x0.80mm, IPC High Density)
pins: 1, 2

## R0603 4.64k 1%
designator R?  value 4.64k  (hidden comment: *)
RES 4.64K OHM 1% 1/10W 0603; Supplier 1: Digi-Key; Supplier Part Number 1: RMCF0603FT4K64CT-ND
footprint R0603-IPC
footprint R0603-HIGH-DENSITY (Chip Resistor, 2-Leads, Body 1.60x0.80mm, IPC High Density)
pins: 1, 2

## R0603 4.99K 0.1%
designator R?  value 4.99k  (hidden comment: *)
RES SMD 4.99KOHM 0.1% 1/10W 0603; Temperature Coefficient: ±25ppm/°C; Tolerance: ±0.1%; Features: Automotive AEC-Q200; Operating Temperature: -55°C ~ 155°C; Supplier 1: Digi-Key; Supplier Part Number 1: P4.99KDBCT-ND
footprint R0603-IPC
footprint R0603-HIGH-DENSITY (Chip Resistor, 2-Leads, Body 1.60x0.80mm, IPC High Density)
pins: 1, 2

## R0603 5.1K 1%
designator R?  value 5.1k  (hidden comment: *)
RES SMD 5.1K OHM 1% 1/10W 0603; Temperature Coefficient: ±100ppm/°C; Features: Automotive AEC-Q200; Operating Temperature: -55°C ~ 155°C; Supplier 1: Digi-Key; Supplier Part Number 1: RMCF0603FT5K10CT-ND
footprint R0603-IPC
footprint R0603-HIGH-DENSITY (Chip Resistor, 2-Leads, Body 1.60x0.80mm, IPC High Density)
footprint R0603-IPC-5.1K (5.1K 0603 Resistor)
pins: 1, 2

## R0603 5.9K 1%
designator R?  value 5.9k  (hidden comment: *)
RES 5.9K OHM 1% 1/10W 0603; Supplier 1: Digi-Key; Supplier Part Number 1: RMCF0603FT5K90CT-ND
footprint R0603-IPC
footprint R0603-HIGH-DENSITY (Chip Resistor, 2-Leads, Body 1.60x0.80mm, IPC High Density)
pins: 1, 2

## R0603 6.2k 0.1%
designator R?  value 6.2k  (hidden comment: *)
RES SMD 6.2K OHM 0.1% 1/10W 0603
footprint R0603-IPC
footprint R0603-HIGH-DENSITY (Chip Resistor, 2-Leads, Body 1.60x0.80mm, IPC High Density)
pins: 1, 2

## R0603 6.2k 1%
designator R?  value 6.2k  (hidden comment: *)
RES 6.2K OHM 1% 1/10W 0603; Supplier 1: Digi-Key; Supplier Part Number 1: RMCF0603FT6K20CT-ND
footprint R0603-IPC
footprint R0603-HIGH-DENSITY (Chip Resistor, 2-Leads, Body 1.60x0.80mm, IPC High Density)
pins: 1, 2

## R0603 6.04k 1%
designator R?  value 6.04k  (hidden comment: *)
RES 6.04K OHM 1% 1/10W 0603; Supplier 1: Digi-Key; Supplier Part Number 1: RMCF0603FT6K04CT-ND
footprint R0603-IPC
footprint R0603-HIGH-DENSITY (Chip Resistor, 2-Leads, Body 1.60x0.80mm, IPC High Density)
pins: 1, 2

## R0603 6.65K 1% 0.1 W
designator R?  value 6.65k  (hidden comment: *)
6.65 kOhms ±1% 0.1W, 1/10W Chip Resistor 0603 (1608 Metric) Automotive AEC-Q200 Thick Film; Supplier 1: Digi-Key; Supplier Part Number 1: RMCF0603FT6K65CT-ND
footprint R0603-HIGH-DENSITY (Chip Resistor, 2-Leads, Body 1.60x0.80mm, IPC High Density)
pins: 1, 2

## R0603 7.87k 1%
designator R?  value 7.87k  (hidden comment: *)
RES 7.87K OHM 1% 1/10W 0603; Supplier 1: Digi-Key; Supplier Part Number 1: RMCF0603FT7K87CT-ND
footprint R0603-IPC
footprint R0603-HIGH-DENSITY (Chip Resistor, 2-Leads, Body 1.60x0.80mm, IPC High Density)
pins: 1, 2

## R0603 9.76K 1%
designator R?  value 9.76k  (hidden comment: *)
RES SMD 9.76K OHM 1% 1/10W 0603; Supplier 1: Digi-Key; Supplier Part Number 1: P9.76KHCT-ND
footprint R0603-IPC
footprint R0603-HIGH-DENSITY (Chip Resistor, 2-Leads, Body 1.60x0.80mm, IPC High Density)
pins: 1, 2

## R0603 10.1k 0.1%
designator R?  value 10.1k  (hidden comment: *)
Chip Resistor, 0603, 10.1k ohms, 0.125W; Supplier 1: Digi-Key; Supplier Part Number 1: 541-3907-1-ND
footprint R0603-IPC
footprint R0603-HIGH-DENSITY (Chip Resistor, 2-Leads, Body 1.60x0.80mm, IPC High Density)
pins: 1, 2

## R0603 10.2k 0.1%
designator R?  value 10.2k  (hidden comment: *)
Chip Resistor, 0603, 10.2k ohms, 0.2W; Supplier 1: Digi-Key; Supplier Part Number 1: P20087CT-ND
footprint R0603-IPC
footprint R0603-HIGH-DENSITY (Chip Resistor, 2-Leads, Body 1.60x0.80mm, IPC High Density)
pins: 1, 2

## R0603 10.2k 1%
designator R?  value 10.2k  (hidden comment: *)
RES SMD 10.2K OHM 1% 1/10W 0603; Supplier 1: Digi-Key; Supplier Part Number 1: P10.2KHCT-ND
footprint R0603-IPC
footprint R0603-HIGH-DENSITY (Chip Resistor, 2-Leads, Body 1.60x0.80mm, IPC High Density)
pins: 1, 2

## R0603 10k 0.1%
designator R?  value 10k  (hidden comment: *)
Chip Resistor, 0603, 10k ohms, 0.1W; Supplier 1: Digi-Key; Supplier Part Number 1: P10KDBCT-ND
footprint R0603-IPC
footprint R0603-HIGH-DENSITY (Chip Resistor, 2-Leads, Body 1.60x0.80mm, IPC High Density)
pins: 1, 2

## R0603 10K 1%
designator R?  value 10k  (hidden comment: *)
RES SMD 10K OHM 1% 1/10W 0603; Supplier 1: Digi-Key; Supplier Part Number 1: RMCF0603FT10K0CT-ND
footprint R0603-IPC
footprint R0603-HIGH-DENSITY (Chip Resistor, 2-Leads, Body 1.60x0.80mm, IPC High Density)
footprint R0603-IPC-10K (10K 0603 Resistor)
pins: 1, 2

## R0603 10R 1%
designator R?  value 10R  (hidden comment: *)
RES 10 OHM 1% 1/10W 0603; Supplier 1: Digi-Key; Supplier Part Number 1: RMCF0603FT10R0CT-ND
footprint R0603-IPC
footprint R0603-HIGH-DENSITY (Chip Resistor, 2-Leads, Body 1.60x0.80mm, IPC High Density)
pins: 1, 2

## R0603 11k 1%
designator R?  value 11k  (hidden comment: *)
RES 11K OHM 1% 1/10W 0603; Supplier 1: Digi-Key; Supplier Part Number 1: RMCF0603FT11K0CT-ND
footprint R0603-IPC
footprint R0603-HIGH-DENSITY (Chip Resistor, 2-Leads, Body 1.60x0.80mm, IPC High Density)
pins: 1, 2

## R0603 12k 0.1%
designator R?  value 12k  (hidden comment: *)
RES 12K OHM 0.1% 1/10W 0603; Supplier 1: Digi-Key; Supplier Part Number 1: P12KDBCT-ND
footprint R0603-IPC
footprint R0603-HIGH-DENSITY (Chip Resistor, 2-Leads, Body 1.60x0.80mm, IPC High Density)
pins: 1, 2

## R0603 12k 1%
designator R?  value 12k  (hidden comment: *)
RES 12K OHM 1% 1/10W 0603; Supplier 1: Digi-Key; Supplier Part Number 1: 541-12.0KHCT-ND
footprint R0603-IPC
footprint R0603-HIGH-DENSITY (Chip Resistor, 2-Leads, Body 1.60x0.80mm, IPC High Density)
pins: 1, 2

## R0603 13.3k 1%
designator R?  value 13.3k  (hidden comment: *)
RES 13.3K OHM 1% 1/10W 0603; Supplier 1: Digi-Key; Supplier Part Number 1: RMCF0603FT13K3CT-ND
footprint R0603-IPC
footprint R0603-HIGH-DENSITY (Chip Resistor, 2-Leads, Body 1.60x0.80mm, IPC High Density)
pins: 1, 2

## R0603 15.4K 0.1%
designator R?  value 15.4k  (hidden comment: *)
RES SMD 15.4KOHM 0.1% 1/10W 0603; Temperature Coefficient: ±25ppm/°C; Tolerance: ±0.1%; Features: Automotive AEC-Q200; Operating Temperature: -55°C ~ 155°C; Supplier 1: Digi-Key; Supplier Part Number 1: P15.4KDBCT-ND
footprint R0603-IPC
footprint R0603-HIGH-DENSITY (Chip Resistor, 2-Leads, Body 1.60x0.80mm, IPC High Density)
pins: 1, 2

## R0603 15K 1%
designator R?  value 15k  (hidden comment: *)
RES SMD 15K OHM 1% 1/10W 0603; Supplier 1: Digi-Key; Supplier Part Number 1: RMCF0603FT15K0CT-ND
footprint R0603-IPC
footprint R0603-HIGH-DENSITY (Chip Resistor, 2-Leads, Body 1.60x0.80mm, IPC High Density)
pins: 1, 2

## R0603 16.5k 0.1%
designator R?  value 16.5k  (hidden comment: *)
RES SMD 16.5KOHM 0.1% 1/10W 0603; Supplier 1: Digi-Key; Supplier Part Number 1: P16.5KDBCT-ND
footprint R0603-IPC
footprint R0603-HIGH-DENSITY (Chip Resistor, 2-Leads, Body 1.60x0.80mm, IPC High Density)
pins: 1, 2

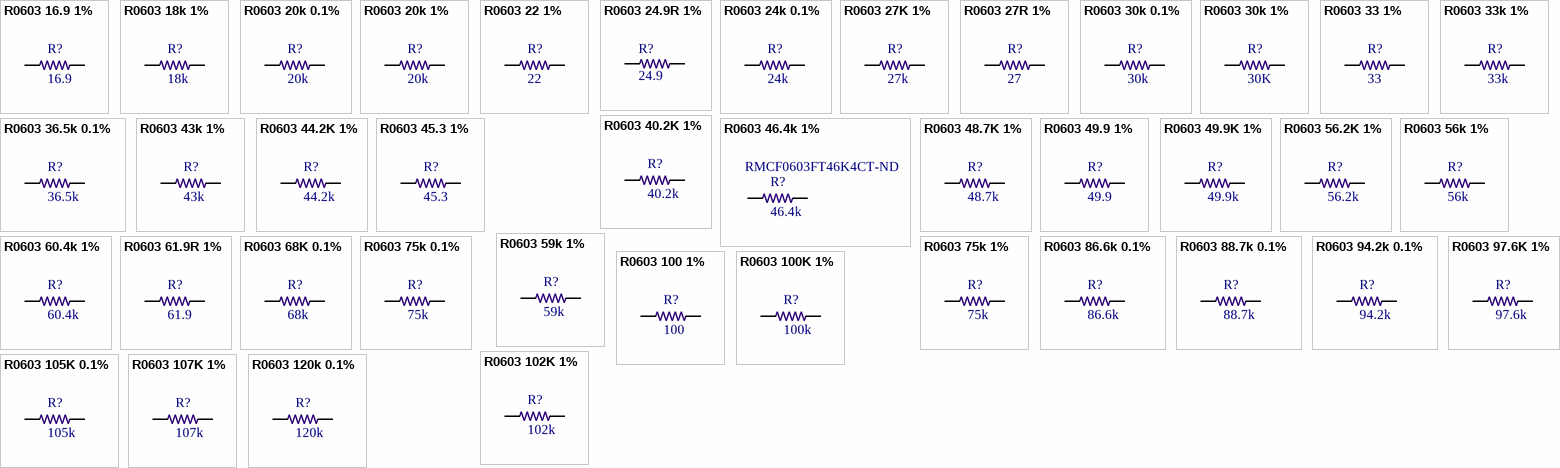
[diagram p3: symbols R0603 16.9 1% to R0603 120k 0.1%]

## R0603 16.9 1%
designator R?  value 16.9  (hidden comment: *)
RES 16.9 OHM 1% 1/10W 0603; Supplier 1: Digi-Key; Supplier Part Number 1: RMCF0603FT16R9CT-ND
footprint R0603-IPC
footprint R0603-HIGH-DENSITY (Chip Resistor, 2-Leads, Body 1.60x0.80mm, IPC High Density)
pins: 1, 2

## R0603 18k 1%
designator R?  value 18k  (hidden comment: *)
RES 18K OHM 1% 1/10W 0603; Supplier 1: Digi-Key; Supplier Part Number 1: RMCF0603FT18K0CT-ND
footprint R0603-IPC
footprint R0603-HIGH-DENSITY (Chip Resistor, 2-Leads, Body 1.60x0.80mm, IPC High Density)
pins: 1, 2

## R0603 20k 0.1%
designator R?  value 20k  (hidden comment: *)
RES SMD 20K OHM 0.1% 1/10W 0603; Supplier 1: Digi-Key; Supplier Part Number 1: P20KDBCT-ND
footprint R0603-IPC
footprint R0603-HIGH-DENSITY (Chip Resistor, 2-Leads, Body 1.60x0.80mm, IPC High Density)
pins: 1, 2

## R0603 20k 1%
designator R?  value 20k  (hidden comment: *)
RES SMD 20K OHM 1% 1/10W 0603; Supplier 1: Digi-Key; Supplier Part Number 1: YAG3577CT-ND
footprint R0603-IPC
footprint R0603-HIGH-DENSITY (Chip Resistor, 2-Leads, Body 1.60x0.80mm, IPC High Density)
pins: 1, 2

## R0603 22 1%
designator R?  value 22  (hidden comment: *)
Chip Resistor, 0603, ??k ohms, 0.1W; Supplier 1: Digi-Key; Supplier Part Number 1: RMCF0603FT22R0CT-ND
footprint R0603-IPC
footprint R0603-HIGH-DENSITY (Chip Resistor, 2-Leads, Body 1.60x0.80mm, IPC High Density)
pins: 1, 2

## R0603 24.9R 1%
designator R?, comment value 24.9  (hidden comment: RC0603FR-0724R9L)
Chip Resistor, 0603, 24.9 ohms, 0.1W; Supplier 1: Digi-Key; Supplier 2: Mouser; Supplier Part Number 1: 311-24.9HRCT-ND; Supplier Part Number 2: 603-RC0603FR-0724R9L
footprint R0603-IPC
footprint R0603-HIGH-DENSITY (Chip Resistor, 2-Leads, Body 1.60x0.80mm, IPC High Density)
pins: 1, 2

## R0603 24k 0.1%
designator R?  value 24k  (hidden comment: *)
Chip Resistor, 0603, 24k ohms, 0.2W; Supplier 1: Digi-Key; Supplier Part Number 1: P20127CT-ND
footprint R0603-IPC
footprint R0603-HIGH-DENSITY (Chip Resistor, 2-Leads, Body 1.60x0.80mm, IPC High Density)
pins: 1, 2

## R0603 27K 1%
designator R?  value 27k  (hidden comment: *)
RES SMD 27K OHM 1% 1/10W 0603; Supplier 1: Digi-Key; Supplier Part Number 1: RMCF0603FT27K0CT-ND
footprint R0603-IPC
footprint R0603-HIGH-DENSITY (Chip Resistor, 2-Leads, Body 1.60x0.80mm, IPC High Density)
pins: 1, 2

## R0603 27R 1%
designator R?  value 27  (hidden comment: *)
RES SMD 27 OHM 1% 1/10W 0603; Supplier 1: Digi-Key; Supplier Part Number 1: RMCF0603FT27R0CT-ND
footprint R0603-IPC
footprint R0603-HIGH-DENSITY (Chip Resistor, 2-Leads, Body 1.60x0.80mm, IPC High Density)
pins: 1, 2

## R0603 30k 0.1%
designator R?  value 30k  (hidden comment: *)
RES SMD 30K OHM 0.1% 1/10W 0603; Supplier 1: Digi-Key; Supplier Part Number 1: P30KDBCT-ND
footprint R0603-IPC
footprint R0603-HIGH-DENSITY (Chip Resistor, 2-Leads, Body 1.60x0.80mm, IPC High Density)
pins: 1, 2

## R0603 30k 1%
designator R?  value 30K  (hidden comment: *)
RES SMD 30K OHM 1% 1/10W 0603; Supplier 1: Digi-Key; Supplier Part Number 1: P30KDBCT-ND
footprint R0603-IPC
footprint R0603-HIGH-DENSITY (Chip Resistor, 2-Leads, Body 1.60x0.80mm, IPC High Density)
pins: 1, 2

## R0603 33 1%
designator R?  value 33  (hidden comment: *)
RES SMD 33 OHM 1% 1/10W 0603; Temperature Coefficient: ±100ppm/°C; Features: Automotive AEC-Q200; Operating Temperature: -55°C ~ 155°C; Supplier 1: Digi-Key; Supplier Part Number 1: RMCF0603FT33R0CT-ND
footprint R0603-IPC
footprint R0603-HIGH-DENSITY (Chip Resistor, 2-Leads, Body 1.60x0.80mm, IPC High Density)
pins: 1, 2

## R0603 33k 1%
designator R?  value 33k  (hidden comment: *)
RES 33K OHM 1% 1/10W 0603; Supplier 1: Digi-Key; Supplier Part Number 1: RMCF0603FT33K0CT-ND
footprint R0603-IPC
footprint R0603-HIGH-DENSITY (Chip Resistor, 2-Leads, Body 1.60x0.80mm, IPC High Density)
pins: 1, 2

## R0603 36.5k 0.1%
designator R?  value 36.5k  (hidden comment: *)
Chip Resistor, 0603, 36.5k ohms, 0.1W; Supplier 1: Digi-Key; Supplier Part Number 1: P36.5KDBCT-ND
footprint R0603-IPC
footprint R0603-HIGH-DENSITY (Chip Resistor, 2-Leads, Body 1.60x0.80mm, IPC High Density)
pins: 1, 2

## R0603 40.2K 1%
designator R?  value 40.2k  (hidden comment: *)
RES SMD 40.2K OHM 1% 1/10W 0603; Supplier 1: Digi-Key; Supplier Part Number 1: RMCF0603FT40K2CT-ND
footprint R0603-IPC
footprint R0603-HIGH-DENSITY (Chip Resistor, 2-Leads, Body 1.60x0.80mm, IPC High Density)
pins: 1, 2

## R0603 43k 1%
designator R?  value 43k  (hidden comment: *)
RES 43K OHM 1% 1/10W 0603; Supplier 1: Digi-Key; Supplier Part Number 1: RMCF0603FT43K0CT-ND
footprint R0603-IPC
footprint R0603-HIGH-DENSITY (Chip Resistor, 2-Leads, Body 1.60x0.80mm, IPC High Density)
pins: 1, 2

## R0603 44.2K 1%
designator R?  value 44.2k  (hidden comment: *)
RES SMD 44.2K OHM 1% 1/10W 0603; Supplier 1: Digi-Key; Supplier Part Number 1: RMCF0603FT44K2CT-ND
footprint R0603-IPC
footprint R0603-HIGH-DENSITY (Chip Resistor, 2-Leads, Body 1.60x0.80mm, IPC High Density)
pins: 1, 2

## R0603 45.3 1%
designator R?  value 45.3  (hidden comment: *)
RES SMD 45.3 OHM 1% 1/10W 0603; Supplier 1: Digi-Key; Supplier Part Number 1: RMCF0603FT45R3CT-ND
footprint R0603-IPC
footprint R0603-HIGH-DENSITY (Chip Resistor, 2-Leads, Body 1.60x0.80mm, IPC High Density)
pins: 1, 2

## R0603 46.4k 1%
designator R?  value 46.4k  Supplier Part Number 1: RMCF0603FT46K4CT-ND  (hidden comment: *)
RES 46.4K OHM 1% 1/10W 0603; Supplier 1: Digi-Key
footprint R0603-IPC
footprint R0603-HIGH-DENSITY (Chip Resistor, 2-Leads, Body 1.60x0.80mm, IPC High Density)
pins: 1, 2

## R0603 48.7K 1%
designator R?  value 48.7k  (hidden comment: *)
RES SMD 48.7K OHM 1% 1/10W 0603; Supplier 1: Digi-Key; Supplier Part Number 1: RMCF0603FT48K7CT-ND
footprint R0603-IPC
footprint R0603-HIGH-DENSITY (Chip Resistor, 2-Leads, Body 1.60x0.80mm, IPC High Density)
pins: 1, 2

## R0603 49.9 1%
designator R?  value 49.9  (hidden comment: *)
RES 49.9 OHM 1% 1/10W 0603; Supplier 1: Digi-Key; Supplier Part Number 1: RMCF0603FT49R9CT-ND
footprint R0603-IPC
footprint R0603-HIGH-DENSITY (Chip Resistor, 2-Leads, Body 1.60x0.80mm, IPC High Density)
pins: 1, 2

## R0603 49.9K 1%
designator R?  value 49.9k  (hidden comment: *)
RES SMD 49.9K OHM 1% 1/10W 0603; Temperature Coefficient: ±100ppm/°C; Features: Automotive AEC-Q200; Operating Temperature: -55°C ~ 155°C; Tolerance: ±1%; Supplier 1: Digi-Key; Supplier Part Number 1: RMCF0603FT49K9CT-ND
footprint R0603-IPC
footprint R0603-HIGH-DENSITY (Chip Resistor, 2-Leads, Body 1.60x0.80mm, IPC High Density)
pins: 1, 2

## R0603 56.2K 1%
designator R?  value 56.2k  (hidden comment: *)
RES SMD 56.2K OHM 1% 1/10W 0603; Supplier 1: Digi-Key; Supplier Part Number 1: RMCF0603FT56K2CT-ND
footprint R0603-IPC
footprint R0603-HIGH-DENSITY (Chip Resistor, 2-Leads, Body 1.60x0.80mm, IPC High Density)
pins: 1, 2

## R0603 56k 1%
designator R?  value 56k  (hidden comment: *)
RES 56K OHM 1% 1/10W 0603; Supplier 1: Digi-Key; Supplier Part Number 1: RMCF0603FT56K0CT-ND
footprint R0603-IPC
footprint R0603-HIGH-DENSITY (Chip Resistor, 2-Leads, Body 1.60x0.80mm, IPC High Density)
pins: 1, 2

## R0603 59k 1%
designator R?  value 59k  (hidden comment: *)
RES 59K OHM 1% 1/10W 0603; Supplier 1: Digi-Key; Supplier Part Number 1: RMCF0603FT59K0CT-ND
footprint R0603-IPC
footprint R0603-HIGH-DENSITY (Chip Resistor, 2-Leads, Body 1.60x0.80mm, IPC High Density)
pins: 1, 2

## R0603 60.4k 1%
designator R?  value 60.4k  (hidden comment: *)
Chip Resistor, 0603, 60.4k ohms, 0.1W
footprint R0603-IPC
footprint R0603-HIGH-DENSITY (Chip Resistor, 2-Leads, Body 1.60x0.80mm, IPC High Density)
pins: 1, 2

## R0603 61.9R 1%
designator R?  value 61.9  (hidden comment: *)
RES 61.9 OHM 1% 1/10W 0603; Supplier 1: Digi-Key; Supplier Part Number 1: RMCF0603FT61R9CT-ND
footprint R0603-IPC
footprint R0603-HIGH-DENSITY (Chip Resistor, 2-Leads, Body 1.60x0.80mm, IPC High Density)
pins: 1, 2

## R0603 68K 0.1%
designator R?  value 68k  (hidden comment: *)
RES SMD 68K OHM 0.1% 1/5W 0603; Supplier 1: Digi-Key; Supplier Part Number 1: P20181CT-ND
footprint R0603-IPC
footprint R0603-HIGH-DENSITY (Chip Resistor, 2-Leads, Body 1.60x0.80mm, IPC High Density)
pins: 1, 2

## R0603 75k 0.1%
designator R?  value 75k  (hidden comment: *)
Chip Resistor, 0603, 75k ohms, 0.2W; Supplier 1: Digi-Key; Supplier Part Number 1: P20186CT-ND
footprint R0603-IPC
footprint R0603-HIGH-DENSITY (Chip Resistor, 2-Leads, Body 1.60x0.80mm, IPC High Density)
pins: 1, 2

## R0603 75k 1%
designator R?  value 75k  (hidden comment: *)
RES 75K OHM 1% 1/10W 0603; Supplier 1: Digi-Key; Supplier Part Number 1: RMCF0603FT75K0CT-ND
footprint R0603-IPC
footprint R0603-HIGH-DENSITY (Chip Resistor, 2-Leads, Body 1.60x0.80mm, IPC High Density)
pins: 1, 2

## R0603 86.6k 0.1%
designator R?  value 86.6k  (hidden comment: *)
Chip Resistor, 0603, 86.6k ohms, 0.1W; Supplier 1: Digi-Key; Supplier Part Number 1: RNCF0603BTE86K6CT-ND
footprint R0603-IPC
footprint R0603-HIGH-DENSITY (Chip Resistor, 2-Leads, Body 1.60x0.80mm, IPC High Density)
pins: 1, 2

## R0603 88.7k 0.1%
designator R?  value 88.7k  (hidden comment: *)
RES SMD 88.7KOHM 0.1% 1/10W 0603; Supplier 1: Digi-Key; Supplier Part Number 1: P88.7KDBCT-ND
footprint R0603-IPC
footprint R0603-HIGH-DENSITY (Chip Resistor, 2-Leads, Body 1.60x0.80mm, IPC High Density)
pins: 1, 2

## R0603 94.2k 0.1%
designator R?  value 94.2k  (hidden comment: *)
Chip Resistor, 0603, 94.2k ohms, 0.1W; Supplier 1: Digi-Key; Supplier Part Number 1: YAG4605CT-ND
footprint R0603-IPC
footprint R0603-HIGH-DENSITY (Chip Resistor, 2-Leads, Body 1.60x0.80mm, IPC High Density)
pins: 1, 2

## R0603 97.6K 1%
designator R?  value 97.6k  (hidden comment: *)
RES SMD 97.6K OHM 1% 1/10W 0603; Supplier 1: Digi-Key; Supplier Part Number 1: RMCF0603FT97K6CT-ND
footprint R0603-IPC
footprint R0603-HIGH-DENSITY (Chip Resistor, 2-Leads, Body 1.60x0.80mm, IPC High Density)
pins: 1, 2

## R0603 100 1%
designator R?  value 100  (hidden comment: *)
RES SMD 100 OHM 1% 1/4W 0603; Power (Watts): 0.25W, 1/4W; Supplier 1: Digi-Key; Supplier Part Number 1: 541-3244-1-ND
footprint R0603-IPC
footprint R0603-HIGH-DENSITY (Chip Resistor, 2-Leads, Body 1.60x0.80mm, IPC High Density)
pins: 1, 2

## R0603 100K 1%
designator R?  value 100k  (hidden comment: *)
RES SMD 100K OHM 1% 1/10W 0603; Supplier 1: Digi-Key; Supplier Part Number 1: RMCF0603FT100KCT-ND
footprint R0603-IPC
footprint R0603-HIGH-DENSITY (Chip Resistor, 2-Leads, Body 1.60x0.80mm, IPC High Density)
pins: 1, 2

## R0603 102K 1%
designator R?  value 102k  (hidden comment: *)
RES SMD 102K OHM 1% 1/10W 0603; Temperature Coefficient: ±100ppm/°C; Features: Automotive AEC-Q200; Operating Temperature: -55°C ~ 155°C; Tolerance: ±1%; Supplier 1: Digi-Key; Supplier Part Number 1: RMCF0603FG102KCT-ND
footprint R0603-IPC
footprint R0603-HIGH-DENSITY (Chip Resistor, 2-Leads, Body 1.60x0.80mm, IPC High Density)
pins: 1, 2

## R0603 105K 0.1%
designator R?  value 105k  (hidden comment: *)
RES SMD 105K OHM 0.1% 1/10W 0603; Supplier 1: Digi-Key; Supplier Part Number 1: P105KDBCT-ND
footprint R0603-IPC
footprint R0603-HIGH-DENSITY (Chip Resistor, 2-Leads, Body 1.60x0.80mm, IPC High Density)
pins: 1, 2

## R0603 107K 1%
designator R?  value 107k  (hidden comment: *)
RES SMD 107K OHM 1% 1/10W 0603; Supplier 1: Digi-Key; Supplier Part Number 1: RMCF0603FT107KCT-ND
footprint R0603-IPC
footprint R0603-HIGH-DENSITY (Chip Resistor, 2-Leads, Body 1.60x0.80mm, IPC High Density)
pins: 1, 2

## R0603 120k 0.1%
designator R?  value 120k  (hidden comment: *)
RES SMD 120K OHM 0.1% 1/10W 0603; Supplier 1: Digi-Key; Supplier Part Number 1: P120KDBCT-ND
footprint R0603-IPC
footprint R0603-HIGH-DENSITY (Chip Resistor, 2-Leads, Body 1.60x0.80mm, IPC High Density)
pins: 1, 2

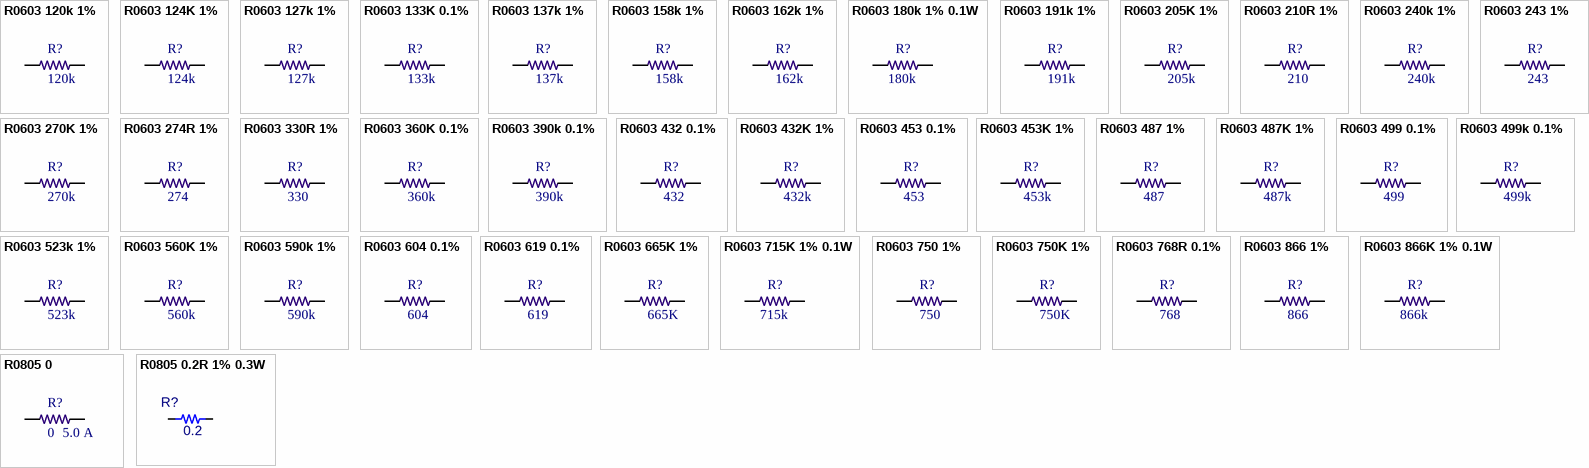
[diagram p4: symbols R0603 120k 1% to R0805 0.2R 1% 0.3W]

## R0603 120k 1%
designator R?  value 120k  (hidden comment: *)
RES SMD 120K OHM 1% 1/10W 0603; Power: 0.1W; Temperature Coefficient: ±100ppm/°C; Supplier 1: Digi-Key; Tolerance: ±1%; Features: Automotive AEC-Q200; Operating Temperature: -55°C ~ 155°C; Supplier Part Number 1: RMCF0603FT120KCT-ND
footprint R0603-IPC
footprint R0603-HIGH-DENSITY (Chip Resistor, 2-Leads, Body 1.60x0.80mm, IPC High Density)
pins: 1, 2

## R0603 124K 1%
designator R?  value 124k  (hidden comment: *)
RES SMD 124K OHM 1% 1/10W 0603; Supplier 1: Digi-Key; Supplier Part Number 1: RMCF0603FT124KCT-ND
footprint R0603-IPC
footprint R0603-HIGH-DENSITY (Chip Resistor, 2-Leads, Body 1.60x0.80mm, IPC High Density)
pins: 1, 2

## R0603 127k 1%
designator R?  value 127k  (hidden comment: *)
Chip Resistor, 0603, 127k ohms, 0.1W; Supplier 1: Digi-Key; Supplier Part Number 1: RMCF0603FT127KCT-ND
footprint R0603-IPC
footprint R0603-HIGH-DENSITY (Chip Resistor, 2-Leads, Body 1.60x0.80mm, IPC High Density)
pins: 1, 2

## R0603 133K 0.1%
designator R?  value 133k  (hidden comment: *)
RES SMD 133K OHM 0.1% 1/10W 0603; Temperature Coefficient: ±25ppm/°C; Tolerance: ±0.1%; Features: Automotive AEC-Q200; Operating Temperature: -55°C ~ 155°C; Supplier 1: Digi-Key; Supplier Part Number 1: P133KDBCT-ND
footprint R0603-IPC
footprint R0603-HIGH-DENSITY (Chip Resistor, 2-Leads, Body 1.60x0.80mm, IPC High Density)
pins: 1, 2

## R0603 137k 1%
designator R?  value 137k  (hidden comment: *)
Chip Resistor, 0603, 137k ohms, 0.1W; Supplier 1: Digi-Key; Supplier Part Number 1: RMCF0603FT137KCT-ND
footprint R0603-IPC
footprint R0603-HIGH-DENSITY (Chip Resistor, 2-Leads, Body 1.60x0.80mm, IPC High Density)
pins: 1, 2

## R0603 158k 1%
designator R?  value 158k  (hidden comment: *)
RES 158K OHM 1% 1/10W 0603; Supplier 1: Digi-Key; Supplier Part Number 1: RMCF0603FT158KCT-ND
footprint R0603-IPC
footprint R0603-HIGH-DENSITY (Chip Resistor, 2-Leads, Body 1.60x0.80mm, IPC High Density)
pins: 1, 2